# Altium footprint library project.PcbLib: 18 footprints (part 2 of 2)
Each footprint in its own frame and in the unit in brackets; x right, y up, seen from the top. Pads: shape width x height; smd on the part's side, far side on the other; paste and mask are expansions set on the pad; w line width, h text height; cw(c..) or ccw(c..) is an arc to the next point about the centre after c.
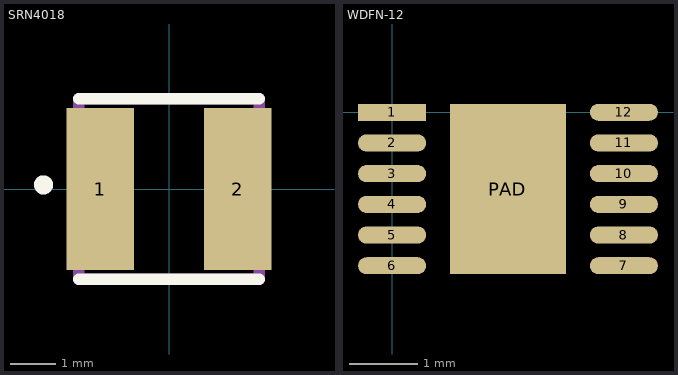
[diagram p1: the footprints below, top view; thin cyan lines are the x and y axes]

## SRN4018 [mm]
pads (2):
  rect 1.5x3.6 smd: 1(-1.525,0) 2(1.525,0)
Top Overlay:
  circle w0.25: c-2.781,0.092 r0.087
  lines w0.25: -2,-2 2,-2 ; -2,2 2,2
Mechanical 15:
  lines w0.25: -2,-2 -2,2 2,2 2,-2 -2,-2

## WDFN-12 [mm]
pads (13):
  rect 1x0.25 smd: 1(0,0)
  oval 1x0.25 smd: 2(0,-0.45) 3(0,-0.9) 4(0,-1.35) 5(0,-1.8) 6(0,-2.25) 7(3.4,-2.25) 8(3.4,-1.8) 9(3.4,-1.35) 10(3.4,-0.9) 11(3.4,-0.45) 12(3.4,0)
  rect 1.7x2.5 smd: PAD(1.7,-1.125)